# Altium footprint library Drivers.PcbLib: 1 footprints
Each footprint in its own frame and in the unit in brackets; x right, y up, seen from the top. Pads: shape width x height; smd on the part's side, far side on the other; paste and mask are expansions set on the pad; w line width, h text height; cw(c..) or ccw(c..) is an arc to the next point about the centre after c.
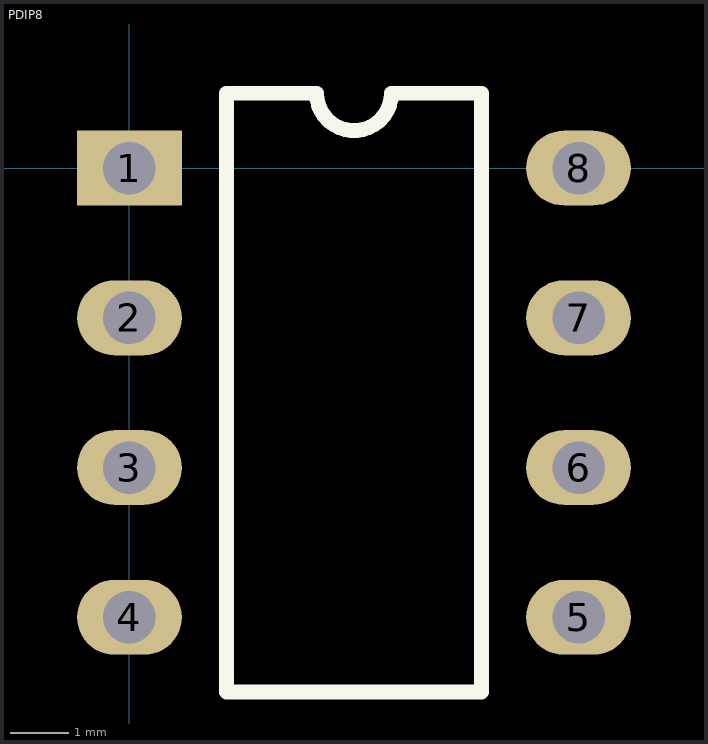
[diagram p0: the footprint, top view; thin cyan lines are the x and y axes]

## PDIP8 [mil]
pads (8):
  rect 70x50 hole 35: 1(0,0)
  oval 70x50 hole 35: 2(0,-100) 3(0,-200) 4(0,-300) 5(300,-300) 6(300,-200) 7(300,-100) 8(300,0)
Top Overlay:
  lines w10: 65,-350 65,50 125,50 ccw(c150,50) 175,50 235,50 235,-350 65,-350
3D body: height 0, standoff -125, extent 295,-7.5 305,7.5
3D body: height 50, standoff 0, extent 295,-25 305,25
3D body: height 50, standoff 40, extent 275,-25 295,25
3D body: height 0, standoff -125, extent 295,-107.5 305,-92.5
3D body: height 50, standoff 0, extent 295,-125 305,-75
3D body: height 50, standoff 40, extent 275,-125 295,-75
3D body: height 0, standoff -125, extent 295,-207.5 305,-192.5
3D body: height 50, standoff 0, extent 295,-225 305,-175
3D body: height 50, standoff 40, extent 275,-225 295,-175
3D body: height 0, standoff -125, extent 295,-307.5 305,-292.5
3D body: height 50, standoff 0, extent 295,-325 305,-275
3D body: height 50, standoff 40, extent 275,-325 295,-275
3D body: height 0, standoff -125, extent -5,-307.5 5,-292.5
3D body: height 50, standoff 0, extent -5,-325 5,-275
3D body: height 50, standoff 40, extent 5,-325 25,-275
3D body: height 0, standoff -125, extent -5,-207.5 5,-192.5
3D body: height 50, standoff 0, extent -5,-225 5,-175
3D body: height 50, standoff 40, extent 5,-225 25,-175
3D body: height 0, standoff -125, extent -5,-107.5 5,-92.5
3D body: height 50, standoff 0, extent -5,-125 5,-75
3D body: height 50, standoff 40, extent 5,-125 25,-75
3D body: height 0, standoff -125, extent -5,-7.5 5,7.5
3D body: height 50, standoff 0, extent -5,-25 5,25
3D body: height 50, standoff 40, extent 5,-25 25,25
3D body: height 100, standoff 15, extent 25,-350 275,50.03